# Altium footprint library WS100.PcbLib: 58 footprints (part 3 of 4)
Each footprint in its own frame and in the unit in brackets; x right, y up, seen from the top. Pads: shape width x height; smd on the part's side, far side on the other; paste and mask are expansions set on the pad; w line width, h text height; cw(c..) or ccw(c..) is an arc to the next point about the centre after c.
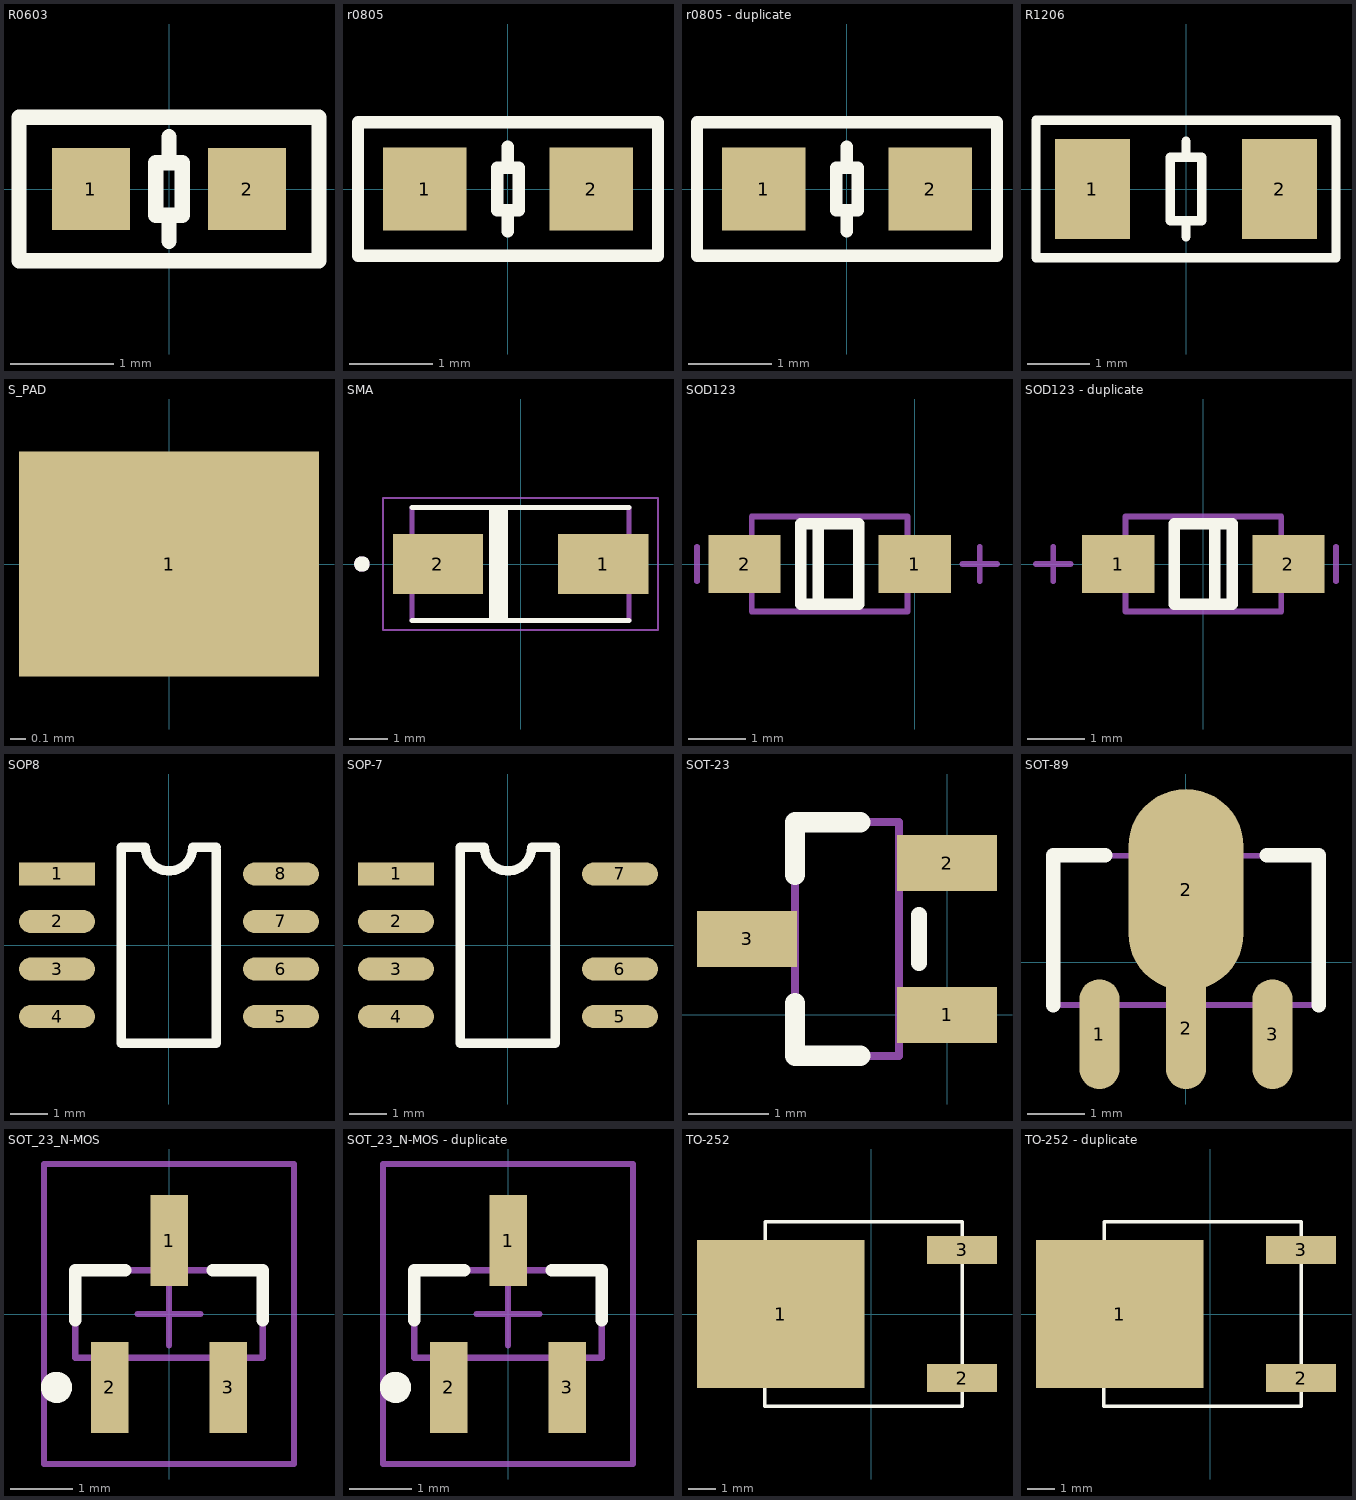
[diagram p2: the footprints below, top view; thin cyan lines are the x and y axes]

## R0603 [mm]
pads (2):
  rect 0.76x0.8 smd: 1(-0.76,0) 2(0.76,0)
Top Overlay:
  lines w0.15: 0,-0.508 0,-0.316 ; 0,0.316 0,0.508 ; -1.46,-0.7 -1.46,0.7 1.46,0.7 1.46,-0.7 -1.46,-0.7 ; -0.127,-0.254 0.127,-0.254 0.127,0.254 -0.127,0.254 -0.127,-0.254

## r0805 [mm]
pads (2):
  rect 1x1 smd: 1(-1,0) 2(1,0)
Top Overlay:
  lines w0.15: 0,-0.508 0,-0.316 ; 0,0.316 0,0.508 ; -1.8,-0.8 -1.8,0.8 1.8,0.8 1.8,-0.8 -1.8,-0.8 ; -0.127,-0.254 -0.127,0.254 0.127,0.254 0.127,-0.254 -0.127,-0.254

## r0805 - duplicate [mm]
pads (2):
  rect 1x1 smd: 1(-1,0) 2(1,0)
Top Overlay:
  lines w0.15: 0,-0.508 0,-0.316 ; 0,0.316 0,0.508 ; -1.8,-0.8 1.8,-0.8 1.8,0.8 -1.8,0.8 -1.8,-0.8 ; -0.127,-0.254 0.127,-0.254 0.127,0.254 -0.127,0.254 -0.127,-0.254

## R1206 [mm]
pads (2):
  rect 1.2x1.6 smd: 1(-1.5,0) 2(1.5,0)
Top Overlay:
  lines w0.15: 0,-0.762 0,-0.508 ; 0,0.508 0,0.762 ; -2.4,-1.1 2.4,-1.1 2.4,1.1 -2.4,1.1 -2.4,-1.1 ; -0.254,-0.508 -0.254,0.508 0.254,0.508 0.254,-0.508 -0.254,-0.508

## S_PAD [mm]
pads (1):
  rect 2x1.5 smd: 1(0,0)

## SMA [mm]
pads (2):
  rect 2.33x1.55 smd: 1(2.135,0) 2(-2.135,0)
Top Overlay:
  circle w0.2: c-4.1,0 r0.1
  rectangle: -0.813,-1.499 -0.33,1.448
  lines w0.1: 0.483,1.448 0.762,1.448
  lines w0.127: -2.8,-1.46 2.8,-1.46 ; -2.8,1.46 2.8,1.46
Mechanical 13:
  circle w0.2: c-4.1,0 r0.1
  circle w0.2: c-4.1,0 r0.1
  lines w0.127: -2.8,-1.46 -2.8,1.46 ; -2.8,-1.46 2.8,-1.46 ; -2.8,-1.46 -2.8,1.46 ; -2.8,-1.46 2.8,-1.46 ; -2.8,1.46 2.8,1.46 ; -2.8,1.46 2.8,1.46 ; 2.8,-1.46 2.8,1.46 ; 2.8,-1.46 2.8,1.46
Mechanical 15:
  lines w0.05: -3.55,-1.71 -3.55,1.71 3.55,1.71 3.55,-1.71 -3.55,-1.71

## SOD123 [mm]
pads (2):
  rect 1.25x1 smd: 1(0,0) 2(-2.95,0)
Top Overlay:
  lines w0.2: -1.675,-0.7 -1.675,0.7 ; -1.975,-0.7 -1.975,0.7 -0.975,0.7 -0.975,-0.7 -1.975,-0.7
Mechanical 13:
  lines w0.1: -2.825,-0.825 -0.125,-0.825 -0.125,0.825 -2.825,0.825 -2.825,-0.825
Mechanical 15:
  lines w0.1: -3.775,-0.3 -3.775,0.3 ; 0.825,0 1.425,0 ; 1.125,-0.3 1.125,0.3
3D body "SOD123F.STEP": height 1.2, standoff -0.01, extent -3.375,-0.849 0.375,0.85

## SOD123 - duplicate [mm]
pads (2):
  rect 1.25x1 smd: 1(-1.475,0) 2(1.475,0)
Top Overlay:
  lines w0.2: 0.2,-0.7 0.2,0.7 ; -0.5,-0.7 0.5,-0.7 0.5,0.7 -0.5,0.7 -0.5,-0.7
Mechanical 13:
  lines w0.1: -1.35,-0.825 -1.35,0.825 1.35,0.825 1.35,-0.825 -1.35,-0.825
Mechanical 15:
  lines w0.1: -2.9,0 -2.3,0 ; -2.6,-0.3 -2.6,0.3 ; 2.3,-0.3 2.3,0.3
3D body "SOD123.STEP": height 1.35, standoff 0, extent -1.85,-0.775 1.85,0.775

## SOP8 [mil]
pads (8):
  rect 80x24 smd: 1(-117.87,75)
  oval 80x24 smd: 2(-117.87,25) 3(-117.87,-25) 4(-117.87,-75) 5(117.87,-75) 6(117.87,-25) 7(117.87,25) 8(117.87,75)
Top Overlay:
  lines w10: 49.98,100 49.98,-103.14 -50.02,-103.14 -50.02,103.16 -25.02,103.16 ccw(c-0.02,103.16) 24.98,103.16 49.98,103.16
3D body "SO-8.STEP": height 66.93, standoff 0, extent -118.12,-96.46 118.1,96.46

## SOP-7 [mil]
pads (7):
  rect 80x24 smd: 1(-117.87,75)
  oval 80x24 smd: 2(-117.87,25) 3(-117.87,-25) 4(-117.87,-75) 5(117.87,-75) 6(117.87,-25) 7(117.87,75)
Top Overlay:
  lines w10: 49.98,100 49.98,-103.14 -50.02,-103.14 -50.02,103.16 -25.02,103.16 ccw(c-0.02,103.16) 24.98,103.16 49.98,103.16
3D body "SO-8.STEP": height 66.93, standoff 0, extent -118.12,-96.46 118.1,96.46

## SOT-23 [mm]
pads (3):
  rect 1.25x0.7 smd: 1(0,0) 2(0,1.9) 3(-2.5,0.95)
Top Overlay:
  lines w0.2: -0.35,0.65 -0.35,1.25
  lines w0.254: -1.9,0.15 -1.9,-0.51 -1.085,-0.51 ; -1.085,2.41 -1.9,2.41 ; -1.9,1.75 -1.9,2.41 ; -1.9,1.75 -1.9,2.41 ; -1.9,1.75 -1.9,2.41
Mechanical 13:
  lines w0.1: -1.9,-0.51 -1.9,2.41 ; -1.9,-0.51 -0.6,-0.51 ; -1.9,-0.51 -0.6,-0.51 ; -1.9,-0.51 -1.9,2.41 ; -1.9,-0.51 -0.6,-0.51 ; -1.9,-0.51 -1.9,2.41 ; -1.9,2.41 -0.6,2.41 ; -1.9,2.41 -0.6,2.41 ; -1.9,2.41 -0.6,2.41 ; -0.6,-0.51 -0.6,2.41 ; -0.6,-0.51 -0.6,2.41 ; -0.6,-0.51 -0.6,2.41
3D body "SOT-23.step": height 1.3, standoff 0, extent -2.75,-0.55 0.25,2.45

## SOT-89 [mm]
pads (4):
  oval 0.7x1.9 smd: 1(-1.5,-1.25) 3(1.5,-1.25)
  oval 0.7x2.1 smd: 2(0,-1.15)
  oval 2x3.5 smd: 2(0,1.25)
Top Overlay:
  lines w0.254: -2.3,-0.75 -2.3,1.85 -1.4,1.85 ; 1.4,1.85 2.3,1.85 2.3,-0.75
Mechanical 13:
  lines w0.1: -2.3,-0.745 2.3,-0.745 2.3,1.845 -2.3,1.845 -2.3,-0.745
3D body "SOT-89-3.STEP": height 1.51, standoff 0, extent -2.25,-1.8 2.25,2.5

## SOT_23_N-MOS [mm]
pads (3):
  rect 0.6x1.45 smd: 1(0,1.175) 2(-0.95,-1.175) 3(0.95,-1.175)
Top Overlay:
  circle w0.25: c-1.8,-1.175 r0.125
  lines w0.2: -1.5,-0.1 -1.5,0.7 -0.7,0.7 ; 0.7,0.7 1.5,0.7 1.5,-0.1
Mechanical 13:
  lines w0.1: -1.5,-0.7 -1.5,0.7 1.5,0.7 1.5,-0.7 -1.5,-0.7
Mechanical 15:
  lines w0.1: -0.5,0 0.5,0 ; 0,-0.5 0,0.5 ; -2,-2.4 -2,2.4 2,2.4 2,-2.4 -2,-2.4
3D body: height 1.1, standoff 0, extent -1.5,-0.7 1.5,0.7

## SOT_23_N-MOS - duplicate [mm]
pads (3):
  rect 0.6x1.45 smd: 1(0,1.175) 2(-0.95,-1.175) 3(0.95,-1.175)
Top Overlay:
  circle w0.25: c-1.8,-1.175 r0.125
  lines w0.2: -1.5,-0.1 -1.5,0.7 -0.7,0.7 ; 0.7,0.7 1.5,0.7 1.5,-0.1
Mechanical 13:
  lines w0.1: -1.5,-0.7 1.5,-0.7 1.5,0.7 -1.5,0.7 -1.5,-0.7
Mechanical 15:
  lines w0.1: -0.5,0 0.5,0 ; 0,-0.5 0,0.5 ; -2,-2.4 2,-2.4 2,2.4 -2,2.4 -2,-2.4
3D body: height 1.1, standoff 0, extent -1.5,-0.7 1.5,0.7

## TO-252 [mm]
pads (3):
  rect 6x5.3 smd: 1(-3.25,0)
  rect 2.5x1 smd: 2(3.25,-2.3) 3(3.25,2.3)
Top Overlay:
  lines w0.125: -3.82,-2.67 -3.82,-3.3 -3.11,-3.3 ; -3.81,2.68 -3.81,3.3 -2.39,3.3 ; -3.29,-3.3 3.22,-3.3 ; -3.29,3.3 3.23,3.3 ; 3.25,-3.3 3.25,3.3

## TO-252 - duplicate [mm]
pads (3):
  rect 6x5.3 smd: 1(-3.25,0)
  rect 2.5x1 smd: 2(3.25,-2.3) 3(3.25,2.3)
Top Overlay:
  lines w0.125: -3.82,-2.67 -3.82,-3.3 -3.11,-3.3 ; -3.81,2.68 -3.81,3.3 -2.39,3.3 ; -3.29,-3.3 3.22,-3.3 ; -3.29,3.3 3.23,3.3 ; 3.25,-3.3 3.25,3.3